# Altium integrated library Allegro Interface Peripheral Driver.IntLib: 28 symbols
Pins are listed as number, name and electrical type; pins without a type are passive.

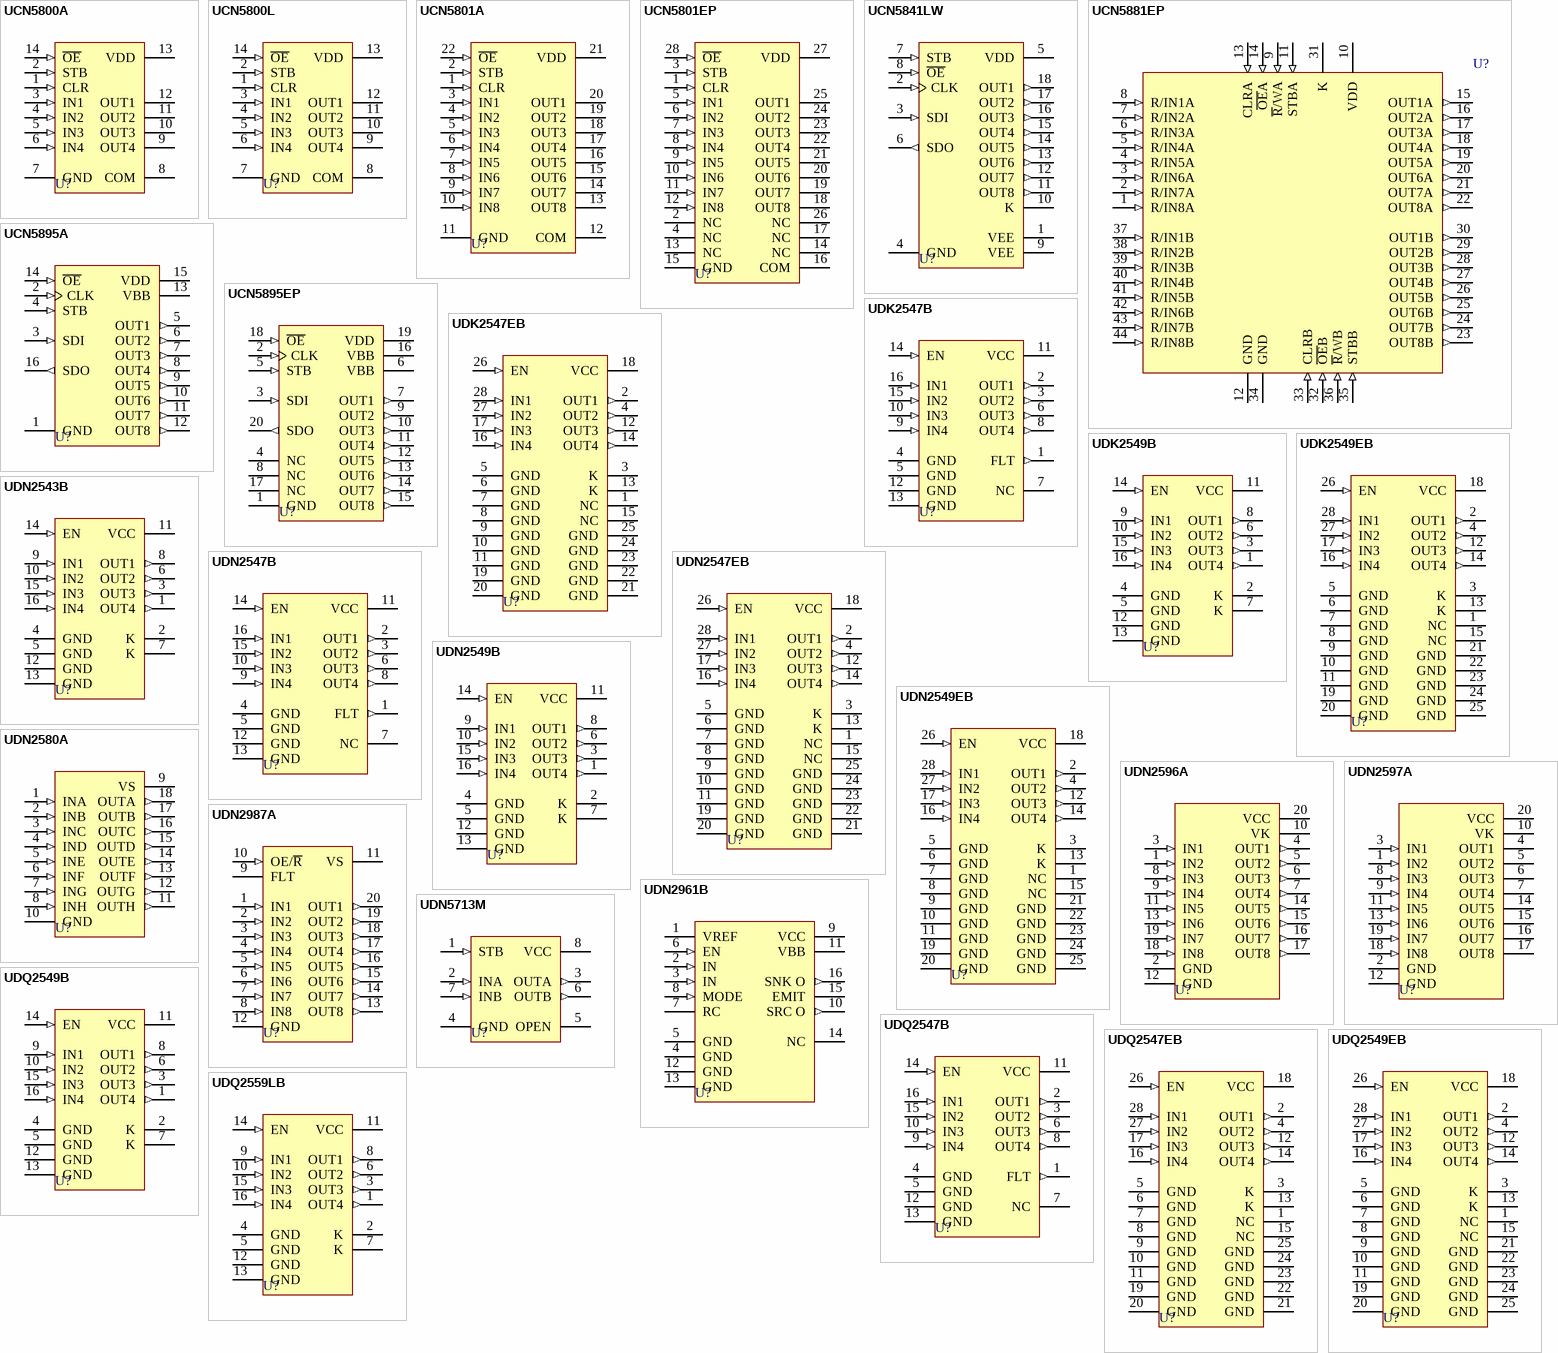
[diagram p0: symbols UCN5800A to UDQ2559LB]

## UCN5800A
designator U?
BiMOS II Latched Driver; ComponentAvailability: Not for New Design; Published: 13-Oct-2000; LatestRevisionDate: 06-Jun-2005; LatestRevisionNote: Stylized 3D Model Added.; DatasheetVersion: 1995; PackageVersion: 1995; PackageReference: A14; Publisher: Altium Limited; PackageDescription: DIP; 14 Leads; Row Spacing 7.62 mm; Pitch 2.54 mm; ComponentLink1Description: Manufacturer Link; ComponentLink1URL: http://www.allegromicro.com/; ComponentLink2Description: Datasheet; ComponentLink2URL: http://www.allegromicro.com/datafile/5800.pdf
footprint A14 (DIP; 14 Leads; Row Spacing 7.62 mm; Pitch 2.54 mm)
3D model A14 (DIP; 14 Leads; Row Spacing 7.62 mm; Pitch 2.54 mm)
pins: 1 CLR (in), 2 STB (in), 3 IN1 (in), 4 IN2 (in), 5 IN3 (in), 6 IN4 (in), 7 GND (power), 8 COM (power), 9 OUT4 (oc), 10 OUT3 (oc), 11 OUT2 (oc), 12 OUT1 (oc), 13 VDD (power), 14 ~{OE} (in)

## UCN5800L
designator U?
BiMOS II Latched Driver; ComponentAvailability: Not for New Design; Published: 13-Oct-2000; LatestRevisionDate: 13-Apr-2006; LatestRevisionNote: IPC-7351 Footprint Added.; DatasheetVersion: 1995; PackageVersion: 1995; PackageReference: L14; Publisher: Altium Limited; PackageDescription: 14-Pin Small Outline Integrated Circuit 1.27 mm Pitch; Code_JEDEC: MS-012-AB; Code_IPC: SOIC127P600-14; ComponentLink1Description: Manufacturer Link; ComponentLink1URL: http://www.allegromicro.com/; ComponentLink2Description: Datasheet; ComponentLink2URL: http://www.allegromicro.com/datafile/5800.pdf
footprint L14_N (SOIC, 14-Leads, Body 8.7x3.9mm, Pitch 1.27mm, IPC Medium Density)
footprint L14_L (SOIC, 14-Leads, Body 8.7x3.9mm, Pitch 1.27mm, IPC High Density)
footprint L14_M (SOIC, 14-Leads, Body 8.7x3.9mm, Pitch 1.27mm, IPC Low Density)
3D model L14 (14-Pin Small Outline Integrated Circuit 1.27 mm Pitch)
pins: 1 CLR (in), 2 STB (in), 3 IN1 (in), 4 IN2 (in), 5 IN3 (in), 6 IN4 (in), 7 GND (power), 8 COM (power), 9 OUT4 (oc), 10 OUT3 (oc), 11 OUT2 (oc), 12 OUT1 (oc), 13 VDD (power), 14 ~{OE} (in)

## UCN5801A
designator U?
BiMOS II Latched Driver; ComponentAvailability: Not for New Design; Published: 13-Oct-2000; LatestRevisionDate: 06-Jun-2005; LatestRevisionNote: Stylized 3D Model Added.; DatasheetVersion: 1995; PackageVersion: 1995; PackageReference: A22; Publisher: Altium Limited; PackageDescription: DIP; 22 Leads; Row Spacing 10.16 mm; Pitch 2.54 mm; ComponentLink1Description: Manufacturer Link; ComponentLink1URL: http://www.allegromicro.com/; ComponentLink2Description: Datasheet; ComponentLink2URL: http://www.allegromicro.com/datafile/5800.pdf
footprint A22 (DIP; 22 Leads; Row Spacing 10.16 mm; Pitch 2.54 mm)
3D model A22 (DIP; 22 Leads; Row Spacing 10.16 mm; Pitch 2.54 mm)
pins: 1 CLR (in), 2 STB (in), 3 IN1 (in), 4 IN2 (in), 5 IN3 (in), 6 IN4 (in), 7 IN5 (in), 8 IN6 (in), 9 IN7 (in), 10 IN8 (in), 11 GND (power), 12 COM (power), 13 OUT8 (oc), 14 OUT7 (oc), 15 OUT6 (oc), 16 OUT5 (oc), 17 OUT4 (oc), 18 OUT3 (oc), 19 OUT2 (oc), 20 OUT1 (oc), 21 VDD (power), 22 ~{OE} (in)

## UCN5801EP
designator U?
BiMOS II Latched Driver; ComponentAvailability: Not for New Design; Published: 13-Oct-2000; LatestRevisionDate: 13-Apr-2006; LatestRevisionNote: IPC-7351 Footprint Added.; DatasheetVersion: 1995; PackageVersion: 1995; PackageReference: EP28; Publisher: Altium Limited; PackageDescription: 28-Pin Leaded Chip Carrier 1.27 mm Pitch; Code_IPC: PLCC-28; ComponentLink1Description: Manufacturer Link; ComponentLink1URL: http://www.allegromicro.com/; ComponentLink2Description: Datasheet; ComponentLink2URL: http://www.allegromicro.com/datafile/5800.pdf
footprint EP28_N (Leaded Chip Carrier, 28-Leads, Body 11.5x11.5mm, Pitch 1.27mm, IPC Medium Density)
footprint EP28_L (Leaded Chip Carrier, 28-Leads, Body 11.5x11.5mm, Pitch 1.27mm, IPC High Density)
footprint EP28_M (Leaded Chip Carrier, 28-Leads, Body 11.5x11.5mm, Pitch 1.27mm, IPC Low Density)
3D model UCN5801-EP28 (28-Pin Leaded Chip Carrier 1.27 mm Pitch)
pins: 1 CLR (in), 2 NC, 3 STB (in), 4 NC, 5 IN1 (in), 6 IN2 (in), 7 IN3 (in), 8 IN4 (in), 9 IN5 (in), 10 IN6 (in), 11 IN7 (in), 12 IN8 (in), 13 NC, 14 NC, 15 GND (power), 16 COM (power), 17 NC, 18 OUT8 (oc), 19 OUT7 (oc), 20 OUT6 (oc), 21 OUT5 (oc), 22 OUT4 (oc), 23 OUT3 (oc), 24 OUT2 (oc), 25 OUT1 (oc), 26 NC, 27 VDD (power), 28 ~{OE} (in)

## UCN5841LW
designator U?
BiMOS II 8-Bit Serial-Input, Latched Driver; ComponentAvailability: Not for New Design; Published: 13-Oct-2000; LatestRevisionDate: 13-Apr-2006; LatestRevisionNote: IPC-7351 Footprint Added.; DatasheetVersion: 1995; PackageReference: LW18; Publisher: Altium Limited; PackageDescription: 18-Pin Small Outline Integrated Circuit 1.27 mm Pitch; Code_JEDEC: MS-013-AB; ComponentLink1Description: Manufacturer Link; ComponentLink1URL: http://www.allegromicro.com/; ComponentLink2Description: Datasheet; ComponentLink2URL: http://www.allegromicro.com/datafile/5841.pdf
footprint LW18_N (SOIC, 18-Leads, Body 11.6x7.5mm, Pitch 1.27mm, IPC Medium Density)
footprint LW18_L (SOIC, 18-Leads, Body 11.6x7.5mm, Pitch 1.27mm, IPC High Density)
footprint LW18_M (SOIC, 18-Leads, Body 11.6x7.5mm, Pitch 1.27mm, IPC Low Density)
3D model LW18 (18-Pin Small Outline Integrated Circuit 1.27 mm Pitch)
pins: 1 VEE (power), 2 CLK (in), 3 SDI (in), 4 GND (power), 5 VDD (power), 6 SDO (out), 7 STB (in), 8 ~{OE} (in), 9 VEE (power), 10 K (power), 11 OUT8 (out), 12 OUT7 (out), 13 OUT6 (out), 14 OUT5 (out), 15 OUT4 (out), 16 OUT3 (out), 17 OUT2 (out), 18 OUT1 (out)

## UCN5881EP
designator U?
BiMOS II Dual 8-Bit Latched Driver with Read Back; ComponentAvailability: Obsolete; Published: 13-Oct-2000; LatestRevisionDate: 13-Apr-2006; LatestRevisionNote: IPC-7351 Footprint Added.; DatasheetVersion: 1995; PackageVersion: 1995; PackageReference: EP44; Publisher: Altium Limited; PackageDescription: 44-Pin Leaded Chip Carrier 1.27 mm Pitch; Code_IPC: PLCC-44; ComponentLink1Description: Manufacturer Link; ComponentLink1URL: http://www.allegromicro.com/; ComponentLink2Description: Datasheet; ComponentLink2URL: http://www.allegromicro.com/datafile/archive/5881.pdf
footprint EP44_N (Leaded Chip Carrier, 44-Leads, Body 16.6x16.6mm, Pitch 1.27mm, IPC Medium Density)
footprint EP44_L (Leaded Chip Carrier, 44-Leads, Body 16.6x16.6mm, Pitch 1.27mm, IPC High Density)
footprint EP44_M (Leaded Chip Carrier, 44-Leads, Body 16.6x16.6mm, Pitch 1.27mm, IPC Low Density)
3D model UCN5881-EP44 (44-Pin Leaded Chip Carrier 1.27 mm Pitch)
pins: 1 R/IN8A (in), 2 R/IN7A (in), 3 R/IN6A (in), 4 R/IN5A (in), 5 R/IN4A (in), 6 R/IN3A (in), 7 R/IN2A (in), 8 R/IN1A (in), 9 ~{R}/WA (in), 10 VDD (power), 11 STBA (in), 12 GND (power), 13 CLRA (in), 14 ~{OE}A (in), 15 OUT1A (out), 16 OUT2A (out), 17 OUT3A (out), 18 OUT4A (out), 19 OUT5A (out), 20 OUT6A (out), 21 OUT7A (out), 22 OUT8A (out), 23 OUT8B (out), 24 OUT7B (out), 25 OUT6B (out), 26 OUT5B (out), 27 OUT4B (out), 28 OUT3B (out), 29 OUT2B (out), 30 OUT1B (out), 31 K, 32 ~{OE}B (in), 33 CLRB (in), 34 GND (power), 35 STBB (in), 36 ~{R}/WB (in), 37 R/IN1B (in), 38 R/IN2B (in), 39 R/IN3B (in), 40 R/IN4B (in), 41 R/IN5B (in), 42 R/IN6B (in), 43 R/IN7B (in), 44 R/IN8B (in)

## UCN5895A
designator U?
BiMOS II 8-Bit Serial-Input, Latched Source Driver; ComponentAvailability: Obsolete; Published: 13-Oct-2000; LatestRevisionDate: 06-Jun-2005; LatestRevisionNote: Stylized 3D Model Added.; DatasheetVersion: 1995; PackageVersion: 1998; PackageReference: A16; Publisher: Altium Limited; PackageDescription: DIP; 16 Leads; Row Spacing 7.62 mm; Pitch 2.54 mm; Code_JEDEC: MS-001-BB; ComponentLink1Description: Manufacturer Link; ComponentLink1URL: http://www.allegromicro.com/; ComponentLink2Description: Datasheet; ComponentLink2URL: http://www.allegromicro.com/datafile/archive/5895.pdf
footprint A16 (DIP; 16 Leads; Row Spacing 7.62 mm; Pitch 2.54 mm)
3D model B16 (DIP; 16 Leads; Row Spacing 7.62 mm; Pitch 2.54 mm)
pins: 1 GND (power), 2 CLK (in), 3 SDI (in), 4 STB (in), 5 OUT1 (out), 6 OUT2 (out), 7 OUT3 (out), 8 OUT4 (out), 9 OUT5 (out), 10 OUT6 (out), 11 OUT7 (out), 12 OUT8 (out), 13 VBB (power), 14 ~{OE} (in), 15 VDD (power), 16 SDO (out)

## UCN5895EP
designator U?
BiMOS II 8-Bit Serial-Input, Latched Source Driver; ComponentAvailability: Obsolete; Published: 13-Oct-2000; LatestRevisionDate: 13-Apr-2006; LatestRevisionNote: IPC-7351 Footprint Added.; DatasheetVersion: 1995; PackageVersion: 1995; PackageReference: EP20; Publisher: Altium Limited; PackageDescription: 20-Pin Leaded Chip Carrier 1.27 mm Pitch; Code_IPC: PLCC-20; ComponentLink1Description: Manufacturer Link; ComponentLink1URL: http://www.allegromicro.com/; ComponentLink2Description: Datasheet; ComponentLink2URL: http://www.allegromicro.com/datafile/archive/5895.pdf
footprint EP20_N (Leaded Chip Carrier, 20-Leads, Body 9x9mm, Pitch 1.27mm, IPC Medium Density)
footprint EP20_L (Leaded Chip Carrier, 20-Leads, Body 9x9mm, Pitch 1.27mm, IPC High Density)
footprint EP20_M (Leaded Chip Carrier, 20-Leads, Body 9x9mm, Pitch 1.27mm, IPC Low Density)
3D model UCN5895-EP20 (20-Pin Leaded Chip Carrier 1.27 mm Pitch)
pins: 1 GND (power), 2 CLK (in), 3 SDI (in), 4 NC, 5 STB (in), 6 VBB (power), 7 OUT1 (out), 8 NC, 9 OUT2 (out), 10 OUT3 (out), 11 OUT4 (out), 12 OUT5 (out), 13 OUT6 (out), 14 OUT7 (out), 15 OUT8 (out), 16 VBB (power), 17 NC, 18 ~{OE} (in), 19 VDD (power), 20 SDO (out)

## UDK2547B
designator U?
Protected Quad Power Driver; Note: Pins (4,5) and (12,13) exist as TABS; all are internally connected (GND).; ComponentAvailability: Not for New Design; Published: 13-Oct-2000; LatestRevisionDate: 06-Jun-2005; LatestRevisionNote: Stylized 3D Model Added.; DatasheetVersion: 1995; PackageVersion: 1994; PackageReference: B16; Publisher: Altium Limited; PackageDescription: DIP; 16 Leads; Row Spacing 7.62 mm; Pitch 2.54 mm; Code_JEDEC: MS-001-BB; ComponentLink1Description: Manufacturer Link; ComponentLink1URL: http://www.allegromicro.com/; ComponentLink2Description: Datasheet; ComponentLink2URL: http://www.allegromicro.com/sf/2547/; ComponentLink3Description: Discontinuation Notice; ComponentLink3URL: http://www.allegromicro.com/sf/2547/
footprint B16 (DIP; 16 Leads; Row Spacing 7.62 mm; Pitch 2.54 mm)
3D model B16 (DIP; 16 Leads; Row Spacing 7.62 mm; Pitch 2.54 mm)
pins: 1 FLT (out), 2 OUT1 (out), 3 OUT2 (out), 4 GND (power), 5 GND (power), 6 OUT3 (out), 7 NC, 8 OUT4 (out), 9 IN4 (in), 10 IN3 (in), 11 VCC (power), 12 GND (power), 13 GND (power), 14 EN (in), 15 IN2 (in), 16 IN1 (in)

## UDK2547EB
designator U?
Protected Quad Power Driver; Note: Pins (5-11) and (19-25) exist as TABS; all are internally connected (GND).; ComponentAvailability: Not for New Design; Published: 13-Oct-2000; LatestRevisionDate: 13-Apr-2006; LatestRevisionNote: IPC-7351 Footprint Added.; DatasheetVersion: 1995; PackageVersion: 1994; PackageReference: EB28; Publisher: Altium Limited; PackageDescription: 28-Pin Leaded Chip Carrier 1.27 mm Pitch; Code_IPC: PLCC-28; ComponentLink1Description: Manufacturer Link; ComponentLink1URL: http://www.allegromicro.com/; ComponentLink2Description: Datasheet; ComponentLink2URL: http://www.allegromicro.com/sf/2547/; ComponentLink3Description: Discontinuation Notice; ComponentLink3URL: http://www.allegromicro.com/sf/2547/
footprint EB28_N (Leaded Chip Carrier, 28-Leads, Body 11.5x11.5mm, Pitch 1.27mm, IPC Medium Density)
footprint EB28_L (Leaded Chip Carrier, 28-Leads, Body 11.5x11.5mm, Pitch 1.27mm, IPC High Density)
footprint EB28_M (Leaded Chip Carrier, 28-Leads, Body 11.5x11.5mm, Pitch 1.27mm, IPC Low Density)
3D model UDK2547-EB28 (28-Pin Leaded Chip Carrier 1.27 mm Pitch)
pins: 1 NC, 2 OUT1 (out), 3 K, 4 OUT2 (out), 5 GND (power), 6 GND (power), 7 GND (power), 8 GND (power), 9 GND (power), 10 GND (power), 11 GND (power), 12 OUT3 (out), 13 K, 14 OUT4 (out), 15 NC, 16 IN4 (in), 17 IN3 (in), 18 VCC (power), 19 GND (power), 20 GND (power), 21 GND (power), 22 GND (power), 23 GND (power), 24 GND (power), 25 GND (power), 26 EN (in), 27 IN2 (in), 28 IN1 (in)

## UDK2549B
designator U?
Protected Quad Power Driver; Note: Pins (4,5) and (12,13) exist as TABS; all are internally connected (GND).; ComponentAvailability: Obsolete; Published: 13-Oct-2000; LatestRevisionDate: 06-Jun-2005; LatestRevisionNote: Stylized 3D Model Added.; DatasheetVersion: 1995; PackageVersion: 1994; PackageReference: B16; Publisher: Altium Limited; PackageDescription: DIP; 16 Leads; Row Spacing 7.62 mm; Pitch 2.54 mm; Code_JEDEC: MS-001-BB; ComponentLink1Description: Manufacturer Link; ComponentLink1URL: http://www.allegromicro.com/; ComponentLink2Description: Datasheet; ComponentLink2URL: http://www.allegromicro.com/datafile/archive/2549.pdf
footprint B16 (DIP; 16 Leads; Row Spacing 7.62 mm; Pitch 2.54 mm)
3D model B16 (DIP; 16 Leads; Row Spacing 7.62 mm; Pitch 2.54 mm)
pins: 1 OUT4 (out), 2 K, 3 OUT3 (out), 4 GND (power), 5 GND (power), 6 OUT2 (out), 7 K, 8 OUT1 (out), 9 IN1 (in), 10 IN2 (in), 11 VCC (power), 12 GND (power), 13 GND (power), 14 EN (in), 15 IN3 (in), 16 IN4 (in)

## UDK2549EB
designator U?
Protected Quad Power Driver; Note: Pins (5-11) and (19-25) exist as TABS; all are internally connected (GND).; ComponentAvailability: Obsolete; Published: 13-Oct-2000; LatestRevisionDate: 13-Apr-2006; LatestRevisionNote: IPC-7351 Footprint Added.; DatasheetVersion: 1995; PackageVersion: 1994; PackageReference: EB28; Publisher: Altium Limited; PackageDescription: 28-Pin Leaded Chip Carrier 1.27 mm Pitch; Code_IPC: PLCC-28; ComponentLink1Description: Manufacturer Link; ComponentLink1URL: http://www.allegromicro.com/; ComponentLink2Description: Datasheet; ComponentLink2URL: http://www.allegromicro.com/datafile/archive/2549.pdf
footprint EB28_N (Leaded Chip Carrier, 28-Leads, Body 11.5x11.5mm, Pitch 1.27mm, IPC Medium Density)
footprint EB28_L (Leaded Chip Carrier, 28-Leads, Body 11.5x11.5mm, Pitch 1.27mm, IPC High Density)
footprint EB28_M (Leaded Chip Carrier, 28-Leads, Body 11.5x11.5mm, Pitch 1.27mm, IPC Low Density)
3D model UDK2549-EB28 (28-Pin Leaded Chip Carrier 1.27 mm Pitch)
pins: 1 NC, 2 OUT1 (out), 3 K, 4 OUT2 (out), 5 GND (power), 6 GND (power), 7 GND (power), 8 GND (power), 9 GND (power), 10 GND (power), 11 GND (power), 12 OUT3 (out), 13 K, 14 OUT4 (out), 15 NC, 16 IN4 (in), 17 IN3 (in), 18 VCC (power), 19 GND (power), 20 GND (power), 21 GND (power), 22 GND (power), 23 GND (power), 24 GND (power), 25 GND (power), 26 EN (in), 27 IN2 (in), 28 IN1 (in)

## UDN2543B
designator U?
Protected Quad Power Driver; Note: Pins (4,5) and (12,13) exist as TABS; all are internally connected (GND).; ComponentAvailability: Obsolete; Published: 13-Oct-2000; LatestRevisionDate: 06-Jun-2005; LatestRevisionNote: Stylized 3D Model Added.; DatasheetVersion: 1995; PackageVersion: 1994; PackageReference: B16; Publisher: Altium Limited; PackageDescription: DIP; 16 Leads; Row Spacing 7.62 mm; Pitch 2.54 mm; Code_JEDEC: MS-001-BB; ComponentLink1Description: Manufacturer Link; ComponentLink1URL: http://www.allegromicro.com/; ComponentLink2Description: Datasheet; ComponentLink2URL: http://www.allegromicro.com/datafile/archive/2543.pdf
footprint B16 (DIP; 16 Leads; Row Spacing 7.62 mm; Pitch 2.54 mm)
3D model B16 (DIP; 16 Leads; Row Spacing 7.62 mm; Pitch 2.54 mm)
pins: 1 OUT4 (out), 2 K, 3 OUT3 (out), 4 GND (power), 5 GND (power), 6 OUT2 (out), 7 K, 8 OUT1 (out), 9 IN1 (in), 10 IN2 (in), 11 VCC (power), 12 GND (power), 13 GND (power), 14 EN (in), 15 IN3 (in), 16 IN4 (in)

## UDN2547B
designator U?
Protected Quad Power Driver; Note: Pins (4,5) and (12,13) exist as TABS; all are internally connected (GND).; ComponentAvailability: Not for New Design; Published: 13-Oct-2000; LatestRevisionDate: 06-Jun-2005; LatestRevisionNote: Stylized 3D Model Added.; DatasheetVersion: 1995; PackageVersion: 1994; PackageReference: B16; Publisher: Altium Limited; PackageDescription: DIP; 16 Leads; Row Spacing 7.62 mm; Pitch 2.54 mm; Code_JEDEC: MS-001-BB; ComponentLink1Description: Manufacturer Link; ComponentLink1URL: http://www.allegromicro.com/; ComponentLink2Description: Datasheet; ComponentLink2URL: http://www.allegromicro.com/sf/2547/; ComponentLink3Description: Discontinuation Notice; ComponentLink3URL: http://www.allegromicro.com/sf/2547/
footprint B16 (DIP; 16 Leads; Row Spacing 7.62 mm; Pitch 2.54 mm)
3D model B16 (DIP; 16 Leads; Row Spacing 7.62 mm; Pitch 2.54 mm)
pins: 1 FLT (out), 2 OUT1 (out), 3 OUT2 (out), 4 GND (power), 5 GND (power), 6 OUT3 (out), 7 NC, 8 OUT4 (out), 9 IN4 (in), 10 IN3 (in), 11 VCC (power), 12 GND (power), 13 GND (power), 14 EN (in), 15 IN2 (in), 16 IN1 (in)

## UDN2547EB
designator U?
Protected Quad Power Driver; Note: Pins (5-11) and (19-25) exist as TABS; all are internally connected (GND).; ComponentAvailability: Not for New Design; Published: 13-Oct-2000; LatestRevisionDate: 13-Apr-2006; LatestRevisionNote: IPC-7351 Footprint Added.; DatasheetVersion: 1995; PackageVersion: 1994; PackageReference: EB28; Publisher: Altium Limited; PackageDescription: 28-Pin Leaded Chip Carrier 1.27 mm Pitch; Code_IPC: PLCC-28; ComponentLink1Description: Manufacturer Link; ComponentLink1URL: http://www.allegromicro.com/; ComponentLink2Description: Datasheet; ComponentLink2URL: http://www.allegromicro.com/sf/2547/; ComponentLink3Description: Discontinuation Notice; ComponentLink3URL: http://www.allegromicro.com/sf/2547/
footprint EB28_N (Leaded Chip Carrier, 28-Leads, Body 11.5x11.5mm, Pitch 1.27mm, IPC Medium Density)
footprint EB28_L (Leaded Chip Carrier, 28-Leads, Body 11.5x11.5mm, Pitch 1.27mm, IPC High Density)
footprint EB28_M (Leaded Chip Carrier, 28-Leads, Body 11.5x11.5mm, Pitch 1.27mm, IPC Low Density)
3D model UDN2547-EB28 (28-Pin Leaded Chip Carrier 1.27 mm Pitch)
pins: 1 NC, 2 OUT1 (out), 3 K, 4 OUT2 (out), 5 GND (power), 6 GND (power), 7 GND (power), 8 GND (power), 9 GND (power), 10 GND (power), 11 GND (power), 12 OUT3 (out), 13 K, 14 OUT4 (out), 15 NC, 16 IN4 (in), 17 IN3 (in), 18 VCC (power), 19 GND (power), 20 GND (power), 21 GND (power), 22 GND (power), 23 GND (power), 24 GND (power), 25 GND (power), 26 EN (in), 27 IN2 (in), 28 IN1 (in)

## UDN2549B
designator U?
Protected Quad Power Driver; Note: Pins (4,5) and (12,13) exist as TABS; all are internally connected (GND).; ComponentAvailability: Obsolete; Published: 13-Oct-2000; LatestRevisionDate: 06-Jun-2005; LatestRevisionNote: Stylized 3D Model Added.; DatasheetVersion: 1995; PackageVersion: 1994; PackageReference: B16; Publisher: Altium Limited; PackageDescription: DIP; 16 Leads; Row Spacing 7.62 mm; Pitch 2.54 mm; Code_JEDEC: MS-001-BB; ComponentLink1Description: Manufacturer Link; ComponentLink1URL: http://www.allegromicro.com/; ComponentLink2Description: Datasheet; ComponentLink2URL: http://www.allegromicro.com/datafile/archive/2549.pdf
footprint B16 (DIP; 16 Leads; Row Spacing 7.62 mm; Pitch 2.54 mm)
3D model B16 (DIP; 16 Leads; Row Spacing 7.62 mm; Pitch 2.54 mm)
pins: 1 OUT4 (out), 2 K, 3 OUT3 (out), 4 GND (power), 5 GND (power), 6 OUT2 (out), 7 K, 8 OUT1 (out), 9 IN1 (in), 10 IN2 (in), 11 VCC (power), 12 GND (power), 13 GND (power), 14 EN (in), 15 IN3 (in), 16 IN4 (in)

## UDN2549EB
designator U?
Protected Quad Power Driver; Note: Pins (5-11) and (19-25) exist as TABS; all are internally connected (GND).; ComponentAvailability: Obsolete; Published: 13-Oct-2000; LatestRevisionDate: 13-Apr-2006; LatestRevisionNote: IPC-7351 Footprint Added.; DatasheetVersion: 1995; PackageVersion: 1994; PackageReference: EB28; Publisher: Altium Limited; PackageDescription: 28-Pin Leaded Chip Carrier 1.27 mm Pitch; Code_IPC: PLCC-28; ComponentLink1Description: Manufacturer Link; ComponentLink1URL: http://www.allegromicro.com/; ComponentLink2Description: Datasheet; ComponentLink2URL: http://www.allegromicro.com/datafile/archive/2549.pdf
footprint EB28_N (Leaded Chip Carrier, 28-Leads, Body 11.5x11.5mm, Pitch 1.27mm, IPC Medium Density)
footprint EB28_L (Leaded Chip Carrier, 28-Leads, Body 11.5x11.5mm, Pitch 1.27mm, IPC High Density)
footprint EB28_M (Leaded Chip Carrier, 28-Leads, Body 11.5x11.5mm, Pitch 1.27mm, IPC Low Density)
3D model UDN2549-EB28 (28-Pin Leaded Chip Carrier 1.27 mm Pitch)
pins: 1 NC, 2 OUT1 (out), 3 K, 4 OUT2 (out), 5 GND (power), 6 GND (power), 7 GND (power), 8 GND (power), 9 GND (power), 10 GND (power), 11 GND (power), 12 OUT3 (out), 13 K, 14 OUT4 (out), 15 NC, 16 IN4 (in), 17 IN3 (in), 18 VCC (power), 19 GND (power), 20 GND (power), 21 GND (power), 22 GND (power), 23 GND (power), 24 GND (power), 25 GND (power), 26 EN (in), 27 IN2 (in), 28 IN1 (in)

## UDN2580A
designator U?
8-Channel Source Driver; ComponentAvailability: Obsolete; Published: 13-Oct-2000; LatestRevisionDate: 06-Jun-2005; LatestRevisionNote: Stylized 3D Model Added.; DatasheetVersion: 1995; PackageVersion: 1999; PackageReference: A18; Publisher: Altium Limited; PackageDescription: DIP; 18 Leads; Row Spacing 7.62 mm; Pitch 2.54 mm; ComponentLink1Description: Manufacturer Link; ComponentLink1URL: http://www.allegromicro.com/; ComponentLink2Description: Datasheet; ComponentLink2URL: http://www.allegromicro.com/datafile/archive/2580.pdf
footprint A18 (DIP; 18 Leads; Row Spacing 7.62 mm; Pitch 2.54 mm)
3D model A18 (DIP; 18 Leads; Row Spacing 7.62 mm; Pitch 2.54 mm)
pins: 1 INA (in), 2 INB (in), 3 INC (in), 4 IND (in), 5 INE (in), 6 INF (in), 7 ING (in), 8 INH (in), 9 VS (power), 10 GND (power), 11 OUTH (out), 12 OUTG (out), 13 OUTF (out), 14 OUTE (out), 15 OUTD (out), 16 OUTC (out), 17 OUTB (out), 18 OUTA (out)

## UDN2596A
designator U?
8-Channel Saturated Sink Driver; ComponentAvailability: Obsolete; Published: 13-Oct-2000; LatestRevisionDate: 06-Jun-2005; LatestRevisionNote: Stylized 3D Model Added.; DatasheetVersion: 1995; PackageVersion: 1995; PackageReference: A20; Publisher: Altium Limited; PackageDescription: DIP; 20 Leads; Row Spacing 7.62 mm; Pitch 2.54 mm; Code_JEDEC: MS-001-AD; ComponentLink1Description: Manufacturer Link; ComponentLink1URL: http://www.allegromicro.com/; ComponentLink2Description: Datasheet; ComponentLink2URL: http://www.allegromicro.com/datafile/archive/2596.pdf
footprint A20 (DIP; 20 Leads; Row Spacing 7.62 mm; Pitch 2.54 mm)
3D model A20 (DIP; 20 Leads; Row Spacing 7.62 mm; Pitch 2.54 mm)
pins: 1 IN2 (in), 2 GND (power), 3 IN1 (in), 4 OUT1 (out), 5 OUT2 (out), 6 OUT3 (out), 7 OUT4 (out), 8 IN3 (in), 9 IN4 (in), 10 VK (power), 11 IN5 (in), 12 GND (power), 13 IN6 (in), 14 OUT5 (out), 15 OUT6 (out), 16 OUT7 (out), 17 OUT8 (out), 18 IN8 (in), 19 IN7 (in), 20 VCC (power)

## UDN2597A
designator U?
8-Channel Saturated Sink Driver; ComponentAvailability: Obsolete; Published: 13-Oct-2000; LatestRevisionDate: 06-Jun-2005; LatestRevisionNote: Stylized 3D Model Added.; DatasheetVersion: 1995; PackageVersion: 1995; PackageReference: A20; Publisher: Altium Limited; PackageDescription: DIP; 20 Leads; Row Spacing 7.62 mm; Pitch 2.54 mm; Code_JEDEC: MS-001-AD; ComponentLink1Description: Manufacturer Link; ComponentLink1URL: http://www.allegromicro.com/; ComponentLink2Description: Datasheet; ComponentLink2URL: http://www.allegromicro.com/datafile/archive/2596.pdf
footprint A20 (DIP; 20 Leads; Row Spacing 7.62 mm; Pitch 2.54 mm)
3D model A20 (DIP; 20 Leads; Row Spacing 7.62 mm; Pitch 2.54 mm)
pins: 1 IN2 (in), 2 GND (power), 3 IN1 (in), 4 OUT1 (oc), 5 OUT2 (oc), 6 OUT3 (oc), 7 OUT4 (oc), 8 IN3 (in), 9 IN4 (in), 10 VK (power), 11 IN5 (in), 12 GND (power), 13 IN6 (in), 14 OUT5 (oc), 15 OUT6 (oc), 16 OUT7 (oc), 17 OUT8 (oc), 18 IN8 (in), 19 IN7 (in), 20 VCC (power)

## UDN2961B
designator U?
High-Current Half-Bridge Printhead/Motor Driver - with Internal Current Sensing and Control; Note: Pins (4,5) and (12,13) exist as TABS; all are internally connected (GND).; ComponentAvailability: Obsolete; Published: 13-Oct-2000; LatestRevisionDate: 06-Jun-2005; LatestRevisionNote: Stylized 3D Model Added.; DatasheetVersion: 1995; PackageVersion: 1994; PackageReference: B16; Publisher: Altium Limited; PackageDescription: DIP; 16 Leads; Row Spacing 7.62 mm; Pitch 2.54 mm; Code_JEDEC: MS-001-BB; ComponentLink1Description: Manufacturer Link; ComponentLink1URL: http://www.allegromicro.com/; ComponentLink2Description: Datasheet; ComponentLink2URL: http://www.allegromicro.com/datafile/archive/2961.pdf
footprint B16 (DIP; 16 Leads; Row Spacing 7.62 mm; Pitch 2.54 mm)
3D model B16 (DIP; 16 Leads; Row Spacing 7.62 mm; Pitch 2.54 mm)
pins: 1 VREF, 2 IN (in), 3 IN (in), 4 GND (power), 5 GND (power), 6 EN (in), 7 RC, 8 MODE (in), 9 VCC (power), 10 SRC O (out), 11 VBB (power), 12 GND (power), 13 GND (power), 14 NC, 15 EMIT, 16 SNK O (out)

## UDN2987A
designator U?
8-Channel Source Driver with Over-Current Protection; Published: 13-Oct-2000; LatestRevisionDate: 06-Jun-2005; LatestRevisionNote: Stylized 3D Model Added.; DatasheetVersion: 1995; PackageVersion: 1995; PackageReference: A20; Publisher: Altium Limited; PackageDescription: DIP; 20 Leads; Row Spacing 7.62 mm; Pitch 2.54 mm; Code_JEDEC: MS-001-AD; ComponentLink1Description: Manufacturer Link; ComponentLink1URL: http://www.allegromicro.com/; ComponentLink2Description: Datasheet; ComponentLink2URL: http://www.allegromicro.com/sf/2987/
footprint A20 (DIP; 20 Leads; Row Spacing 7.62 mm; Pitch 2.54 mm)
3D model A20 (DIP; 20 Leads; Row Spacing 7.62 mm; Pitch 2.54 mm)
pins: 1 IN1 (in), 2 IN2 (in), 3 IN3 (in), 4 IN4 (in), 5 IN5 (in), 6 IN6 (in), 7 IN7 (in), 8 IN8 (in), 9 FLT (oc), 10 OE/~{R} (in), 11 VS (power), 12 GND (power), 13 OUT8 (out), 14 OUT7 (out), 15 OUT6 (out), 16 OUT5 (out), 17 OUT4 (out), 18 OUT3 (out), 19 OUT2 (out), 20 OUT1 (out)

## UDN5713M
designator U?
Dual Peripheral and Power Driver - Transient Protected Outputs; ComponentAvailability: Obsolete; Published: 13-Oct-2000; LatestRevisionDate: 06-Jun-2005; LatestRevisionNote: Stylized 3D Model Added.; DatasheetVersion: 1995; PackageVersion: 1995; PackageReference: M8; Publisher: Altium Limited; PackageDescription: DIP; 8 Leads; Row Spacing 7.62 mm; Pitch 2.54 mm; ComponentLink1Description: Manufacturer Link; ComponentLink1URL: http://www.allegromicro.com/; ComponentLink2Description: Datasheet; ComponentLink2URL: http://www.allegromicro.com/datafile/archive/5713.pdf
footprint M8 (DIP; 8 Leads; Row Spacing 7.62 mm; Pitch 2.54 mm)
3D model M8 (DIP; 8 Leads; Row Spacing 7.62 mm; Pitch 2.54 mm)
pins: 1 STB (in), 2 INA (in), 3 OUTA (out), 4 GND (power), 5 OPEN, 6 OUTB (out), 7 INB (in), 8 VCC (power)

## UDQ2547B
designator U?
Protected Quad Power Driver; Note: Pins (4,5) and (12,13) exist as TABS; all are internally connected (GND).; ComponentAvailability: Not for New Design; Published: 13-Oct-2000; LatestRevisionDate: 06-Jun-2005; LatestRevisionNote: Stylized 3D Model Added.; DatasheetVersion: 1995; PackageVersion: 1994; PackageReference: B16; Publisher: Altium Limited; PackageDescription: DIP; 16 Leads; Row Spacing 7.62 mm; Pitch 2.54 mm; Code_JEDEC: MS-001-BB; ComponentLink1Description: Manufacturer Link; ComponentLink1URL: http://www.allegromicro.com/; ComponentLink2Description: Datasheet; ComponentLink2URL: http://www.allegromicro.com/sf/2547/; ComponentLink3Description: Discontinuation Notice; ComponentLink3URL: http://www.allegromicro.com/sf/2547/
footprint B16 (DIP; 16 Leads; Row Spacing 7.62 mm; Pitch 2.54 mm)
3D model B16 (DIP; 16 Leads; Row Spacing 7.62 mm; Pitch 2.54 mm)
pins: 1 FLT (out), 2 OUT1 (out), 3 OUT2 (out), 4 GND (power), 5 GND (power), 6 OUT3 (out), 7 NC, 8 OUT4 (out), 9 IN4 (in), 10 IN3 (in), 11 VCC (power), 12 GND (power), 13 GND (power), 14 EN (in), 15 IN2 (in), 16 IN1 (in)

## UDQ2547EB
designator U?
Protected Quad Power Driver; Note: Pins (5-11) and (19-25) exist as TABS; all are internally connected (GND).; ComponentAvailability: Not for New Design; Published: 13-Oct-2000; LatestRevisionDate: 13-Apr-2006; LatestRevisionNote: IPC-7351 Footprint Added.; DatasheetVersion: 1995; PackageVersion: 1994; PackageReference: EB28; Publisher: Altium Limited; PackageDescription: 28-Pin Leaded Chip Carrier 1.27 mm Pitch; Code_IPC: PLCC-28; ComponentLink1Description: Manufacturer Link; ComponentLink1URL: http://www.allegromicro.com/; ComponentLink2Description: Datasheet; ComponentLink2URL: http://www.allegromicro.com/sf/2547/; ComponentLink3Description: Discontinuation Notice; ComponentLink3URL: http://www.allegromicro.com/sf/2547/
footprint EB28_N (Leaded Chip Carrier, 28-Leads, Body 11.5x11.5mm, Pitch 1.27mm, IPC Medium Density)
footprint EB28_L (Leaded Chip Carrier, 28-Leads, Body 11.5x11.5mm, Pitch 1.27mm, IPC High Density)
footprint EB28_M (Leaded Chip Carrier, 28-Leads, Body 11.5x11.5mm, Pitch 1.27mm, IPC Low Density)
3D model UDQ2547-EB28 (28-Pin Leaded Chip Carrier 1.27 mm Pitch)
pins: 1 NC, 2 OUT1 (out), 3 K, 4 OUT2 (out), 5 GND (power), 6 GND (power), 7 GND (power), 8 GND (power), 9 GND (power), 10 GND (power), 11 GND (power), 12 OUT3 (out), 13 K, 14 OUT4 (out), 15 NC, 16 IN4 (in), 17 IN3 (in), 18 VCC (power), 19 GND (power), 20 GND (power), 21 GND (power), 22 GND (power), 23 GND (power), 24 GND (power), 25 GND (power), 26 EN (in), 27 IN2 (in), 28 IN1 (in)

## UDQ2549B
designator U?
Protected Quad Power Driver; Note: Pins (4,5) and (12,13) exist as TABS; all are internally connected (GND).; ComponentAvailability: Obsolete; Published: 13-Oct-2000; LatestRevisionDate: 06-Jun-2005; LatestRevisionNote: Stylized 3D Model Added.; DatasheetVersion: 1995; PackageVersion: 1994; PackageReference: B16; Publisher: Altium Limited; PackageDescription: DIP; 16 Leads; Row Spacing 7.62 mm; Pitch 2.54 mm; Code_JEDEC: MS-001-BB; ComponentLink1Description: Manufacturer Link; ComponentLink1URL: http://www.allegromicro.com/; ComponentLink2Description: Datasheet; ComponentLink2URL: http://www.allegromicro.com/datafile/archive/2549.pdf
footprint B16 (DIP; 16 Leads; Row Spacing 7.62 mm; Pitch 2.54 mm)
3D model B16 (DIP; 16 Leads; Row Spacing 7.62 mm; Pitch 2.54 mm)
pins: 1 OUT4 (out), 2 K, 3 OUT3 (out), 4 GND (power), 5 GND (power), 6 OUT2 (out), 7 K, 8 OUT1 (out), 9 IN1 (in), 10 IN2 (in), 11 VCC (power), 12 GND (power), 13 GND (power), 14 EN (in), 15 IN3 (in), 16 IN4 (in)

## UDQ2549EB
designator U?
Protected Quad Power Driver; Note: Pins (5-11) and (19-25) exist as TABS; all are internally connected (GND).; ComponentAvailability: Obsolete; Published: 13-Oct-2000; LatestRevisionDate: 13-Apr-2006; LatestRevisionNote: IPC-7351 Footprint Added.; DatasheetVersion: 1995; PackageVersion: 1994; PackageReference: EB28; Publisher: Altium Limited; PackageDescription: 28-Pin Leaded Chip Carrier 1.27 mm Pitch; Code_IPC: PLCC-28; ComponentLink1Description: Manufacturer Link; ComponentLink1URL: http://www.allegromicro.com/; ComponentLink2Description: Datasheet; ComponentLink2URL: http://www.allegromicro.com/datafile/archive/2549.pdf
footprint EB28_N (Leaded Chip Carrier, 28-Leads, Body 11.5x11.5mm, Pitch 1.27mm, IPC Medium Density)
footprint EB28_L (Leaded Chip Carrier, 28-Leads, Body 11.5x11.5mm, Pitch 1.27mm, IPC High Density)
footprint EB28_M (Leaded Chip Carrier, 28-Leads, Body 11.5x11.5mm, Pitch 1.27mm, IPC Low Density)
3D model UDQ2549-EB28 (28-Pin Leaded Chip Carrier 1.27 mm Pitch)
pins: 1 NC, 2 OUT1 (out), 3 K, 4 OUT2 (out), 5 GND (power), 6 GND (power), 7 GND (power), 8 GND (power), 9 GND (power), 10 GND (power), 11 GND (power), 12 OUT3 (out), 13 K, 14 OUT4 (out), 15 NC, 16 IN4 (in), 17 IN3 (in), 18 VCC (power), 19 GND (power), 20 GND (power), 21 GND (power), 22 GND (power), 23 GND (power), 24 GND (power), 25 GND (power), 26 EN (in), 27 IN2 (in), 28 IN1 (in)

## UDQ2559LB
designator U?
Protected Quad Power Driver; Note: Pins (4,5) and (12,13) exist as TABS; all are internally connected (GND).; Published: 13-Oct-2000; LatestRevisionDate: 13-Apr-2006; LatestRevisionNote: IPC-7351 Footprint Added.; DatasheetVersion: 1995; PackageReference: LB16; Publisher: Altium Limited; PackageDescription: 16-Pin Small Outline Integrated Circuit 1.27 mm Pitch; Code_JEDEC: MS-013-AA; Code_IPC: SOIC127P1030-16; ComponentLink1Description: Manufacturer Link; ComponentLink1URL: http://www.allegromicro.com/; ComponentLink2Description: Datasheet; ComponentLink2URL: http://www.allegromicro.com/sf/2559/
footprint LB16_N (SOIC, 16-Leads, Body 10.3x7.5mm, Pitch 1.27mm, IPC Medium Density)
footprint LB16_L (SOIC, 16-Leads, Body 10.3x7.5mm, Pitch 1.27mm, IPC High Density)
footprint LB16_M (SOIC, 16-Leads, Body 10.3x7.5mm, Pitch 1.27mm, IPC Low Density)
3D model LB16 (16-Pin Small Outline Integrated Circuit 1.27 mm Pitch)
pins: 1 OUT4 (out), 2 K, 3 OUT3 (out), 4 GND (power), 5 GND (power), 6 OUT2 (out), 7 K, 8 OUT1 (out), 9 IN1 (in), 10 IN2 (in), 11 VCC (power), 12 GND (power), 13 GND (power), 14 EN (in), 15 IN3 (in), 16 IN4 (in)